# EAGLE library part DM3AT-SF-PEJ (library con-Hirose)
microSD
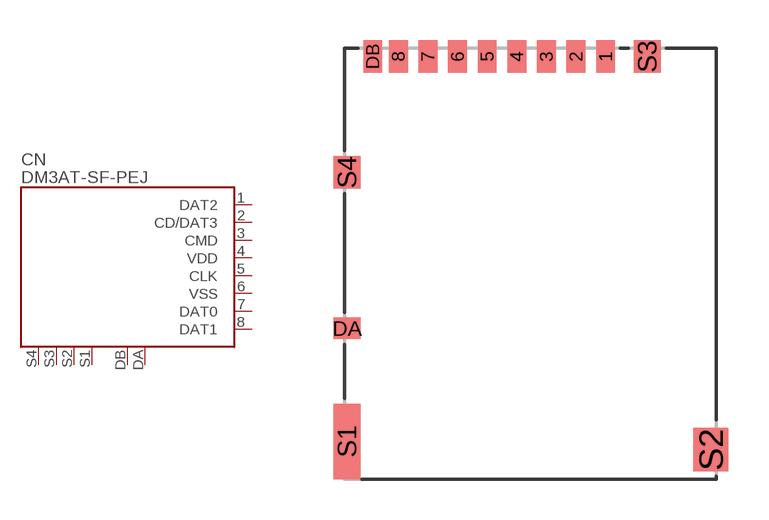
[diagram p3: symbol with the pads of DM3AT; footprint DM3AT]

Designator prefix CN

## DM3AT-SF-PEJ  [DM3AT]
1  DAT2  pas
2  CD/DAT3  pas
3  CMD  pas
4  VDD  pas
5  CLK  pas
6  VSS  pas
7  DAT0  pas
8  DAT1  pas
DA  DETECT1  pas
DB  DETECT2  pas
S1  S1  pas
S2  S2  pas
S3  S3  pas
S4  S4  pas

## Footprint DM3AT (pad centres in mm)
smd 0.7 x 1.2: 1 3,7.7; 2 1.9,7.7; 3 0.8,7.7; 4 -0.3,7.7; 5 -1.4,7.7; 6 -2.5,7.7; 7 -3.6,7.7; 8 -4.7,7.7; DB -5.65,7.7
smd 1 x 0.8: DA -6.6,-2.4
smd 1 x 2.8: S1 -6.6,-6.6
smd 1.3 x 1.6: S2 6.9,-6.9
smd 1 x 1.2: S3 4.55,7.7; S4 -6.6,3.4